# Altium footprint library 灯和电容的封装库.PcbLib: 2 footprints
Each footprint in its own frame and in the unit in brackets; x right, y up, seen from the top. Pads: shape width x height; smd on the part's side, far side on the other; paste and mask are expansions set on the pad; w line width, h text height; cw(c..) or ccw(c..) is an arc to the next point about the centre after c.
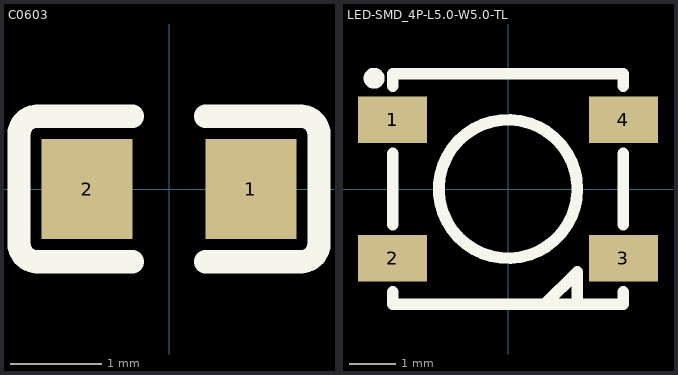
[diagram p0: the footprints below, top view; thin cyan lines are the x and y axes]

## C0603 [mm]
pads (2):
  rect 1x1.1 smd: 1(0.9,0) 2(-0.9,0)
Top Overlay:
  lines w0.254: -0.4,-0.8 -1.4,-0.8 -1.45,-0.8 cw(c-1.45,-0.6) -1.65,-0.6 -1.65,0.6 cw(c-1.45,0.6) -1.45,0.8 -1.4,0.8 -0.4,0.8 ; 0.4,-0.8 1.4,-0.8 1.45,-0.8 ccw(c1.45,-0.6) 1.65,-0.6 1.65,0.6 ccw(c1.45,0.6) 1.45,0.8 1.4,0.8 0.4,0.8

## LED-SMD_4P-L5.0-W5.0-TL [mm]
pads (4):
  rect 1.5x1 smd: 1(-2.5,1.5) 2(-2.5,-1.5) 3(2.5,-1.5) 4(2.5,1.5)
Top Overlay:
  circle w0.254: c-2.9,2.4 r0.1
  circle w0.254: c0.001,0 r1.5
  lines w0.254: -2.5,-2.23 -2.5,-2.5 2.5,-2.5 2.5,-2.23 ; -2.5,-0.77 -2.5,0.77 ; -2.5,2.23 -2.5,2.5 2.5,2.5 2.5,2.23 ; 2.5,-0.77 2.5,0.77 ; 0.8,-2.5 1.5,-1.8 1.5,-2.5 0.8,-2.5